# EAGLE library part PCF8583 (library gost_micro)
PCF8583 Clock and calendar with 240 x 8-bit RAM
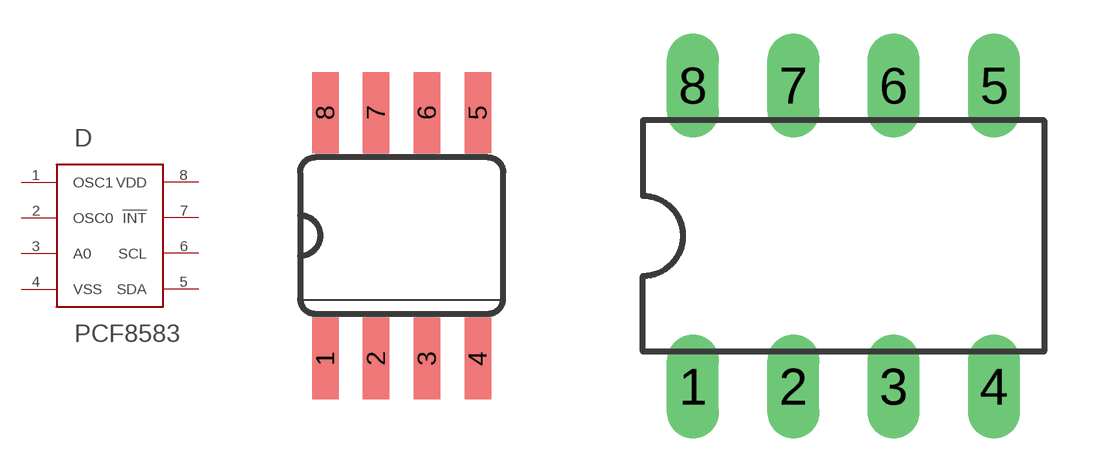
[diagram p27: symbol with the pads of SO08; footprints SO08, DIL08]

Designator prefix D

## PCF8583T  [SO08]
1  OSC1
2  OSC0
3  A0
4  VSS
5  SDA
6  SCL
7  !INT
8  VDD

## PCF8583P  [DIL08]
Pads as for SO08

## Footprint SO08 (pad centres in mm)
Small Outline package 8 150 mil
smd 0.66 x 2.032: 1 -1.905,-3.073; 2 -0.635,-3.073; 3 0.635,-3.073; 4 1.905,-3.073; 5 1.905,3.073; 6 0.635,3.073; 7 -0.635,3.073; 8 -1.905,3.073

## Footprint DIL08 (pad centres in mm)
Dual In Line Package
drill 0.813 long: 1 -3.81,-3.81; 2 -1.27,-3.81; 3 1.27,-3.81; 4 3.81,-3.81; 5 3.81,3.81; 6 1.27,3.81; 7 -1.27,3.81; 8 -3.81,3.81